# Altium schematic symbol library UJ32-C-H-G-SMT-TR.SchLib: 1 symbol
Pins are listed as number, name and electrical type; pins without a type are passive.

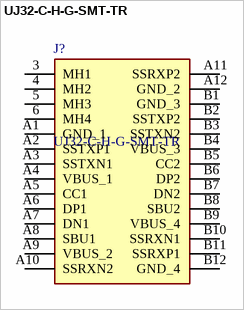
[diagram p0: symbol UJ32-C-H-G-SMT-TR]

## UJ32-C-H-G-SMT-TR
designator J?
Type C, USB 3.2 Gen 2x2, 20 Gbps, 20 Vac, 5 A, Right Angle, Gold Flash, Surface Mount, Black Insulator, USB Receptacle; Manufacturer_Name: Same Sky; Geometry.Height: 3.71mm; Manufacturer_Part_Number: UJ32-C-H-G-SMT-TR; Mouser Part Number: 179-UJ32CHGSMTTR; Mouser Price/Stock: https://www.mouser.co.uk/ProductDetail/CUI-Devices/UJ32-C-H-G-SMT-TR?qs=vvQtp7zwQdNJg60%252BwYKIHw%3D%3D; Arrow Part Number: UJ32-C-H-G-SMT-TR; Arrow Price/Stock: https://www.arrow.com/en/products/uj32-c-h-g-smt-tr/cui-devices?region=europe; Datasheet Link: https://www.sameskydevices.com/product/resource/uj32-c-h-g-smt-tr.pdf
footprint UJ32CHGSMTTR
pins: 3 MH1, 4 MH2, 5 MH3, 6 MH4, A1 GND_1, A2 SSTXP1, A3 SSTXN1, A4 VBUS_1, A5 CC1, A6 DP1, A7 DN1, A8 SBU1, A9 VBUS_2, A10 SSRXN2, A11 SSRXP2, A12 GND_2, B1 GND_3, B2 SSTXP2, B3 SSTXN2, B4 VBUS_3, B5 CC2, B6 DP2, B7 DN2, B8 SBU2, B9 VBUS_4, B10 SSRXN1, B11 SSRXP1, B12 GND_4